# EAGLE library part STG719 (library crasbe)
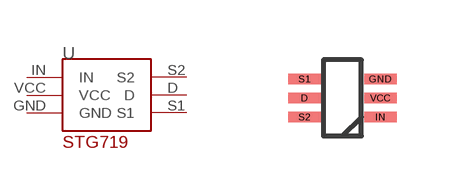
[diagram p4: symbol with the pads of SOTO23-6L; footprint SOTO23-6L]

Designator prefix -

## STG719  [SOTO23-6L]
D  D
GND  GND  pwr
IN  IN  in
S1  S1
S2  S2
VCC  VCC  pwr

## Footprint SOTO23-6L (pad centres in mm)
smd 0.813 x 0.254: D -0.887,0.089; GND 1.013,0.564; IN 1.013,-0.386; S1 -0.887,0.564; S2 -0.887,-0.386; VCC 1.013,0.089